# EAGLE library part 2X5-0.05-SMT (library Neel)
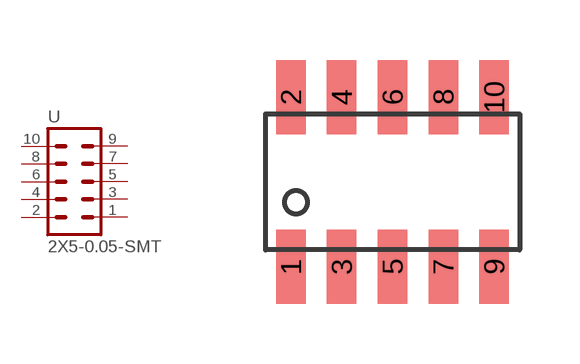
[diagram p67: symbol with the pads of 2X5-0.05-SMT; footprint 2X5-0.05-SMT]

Designator prefix -

## 2X5-0.05-SMT  [2X5-0.05-SMT]
1  1  pas
2  2  pas
3  3  pas
4  4  pas
5  5  pas
6  6  pas
7  7  pas
8  8  pas
9  9  pas
10  10  pas

## Footprint 2X5-0.05-SMT (pad centres in mm)
smd 0.737 x 1.854: 1 -2.54,-2.121; 2 -2.54,2.121; 3 -1.27,-2.121; 4 -1.27,2.121; 5 0,-2.121; 6 0,2.121; 7 1.27,-2.121; 8 1.27,2.121; 9 2.54,-2.121; 10 2.54,2.121